# Altium integrated library adafruit.IntLib: 1 symbol
Pins are listed as number, name and electrical type; pins without a type are passive.

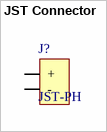
[diagram p0: symbol JST Connector]

## JST Connector
designator J?, comment JST-PH
JST Battery Connector
footprint JST-PH (2 pin JST connector)
pins: 1 -, 2 +